# Altium schematic symbol library KNX-MCU-CONTROL_V0.2.SchLib: 24 symbols
Pins are listed as number, name and electrical type; pins without a type are passive.

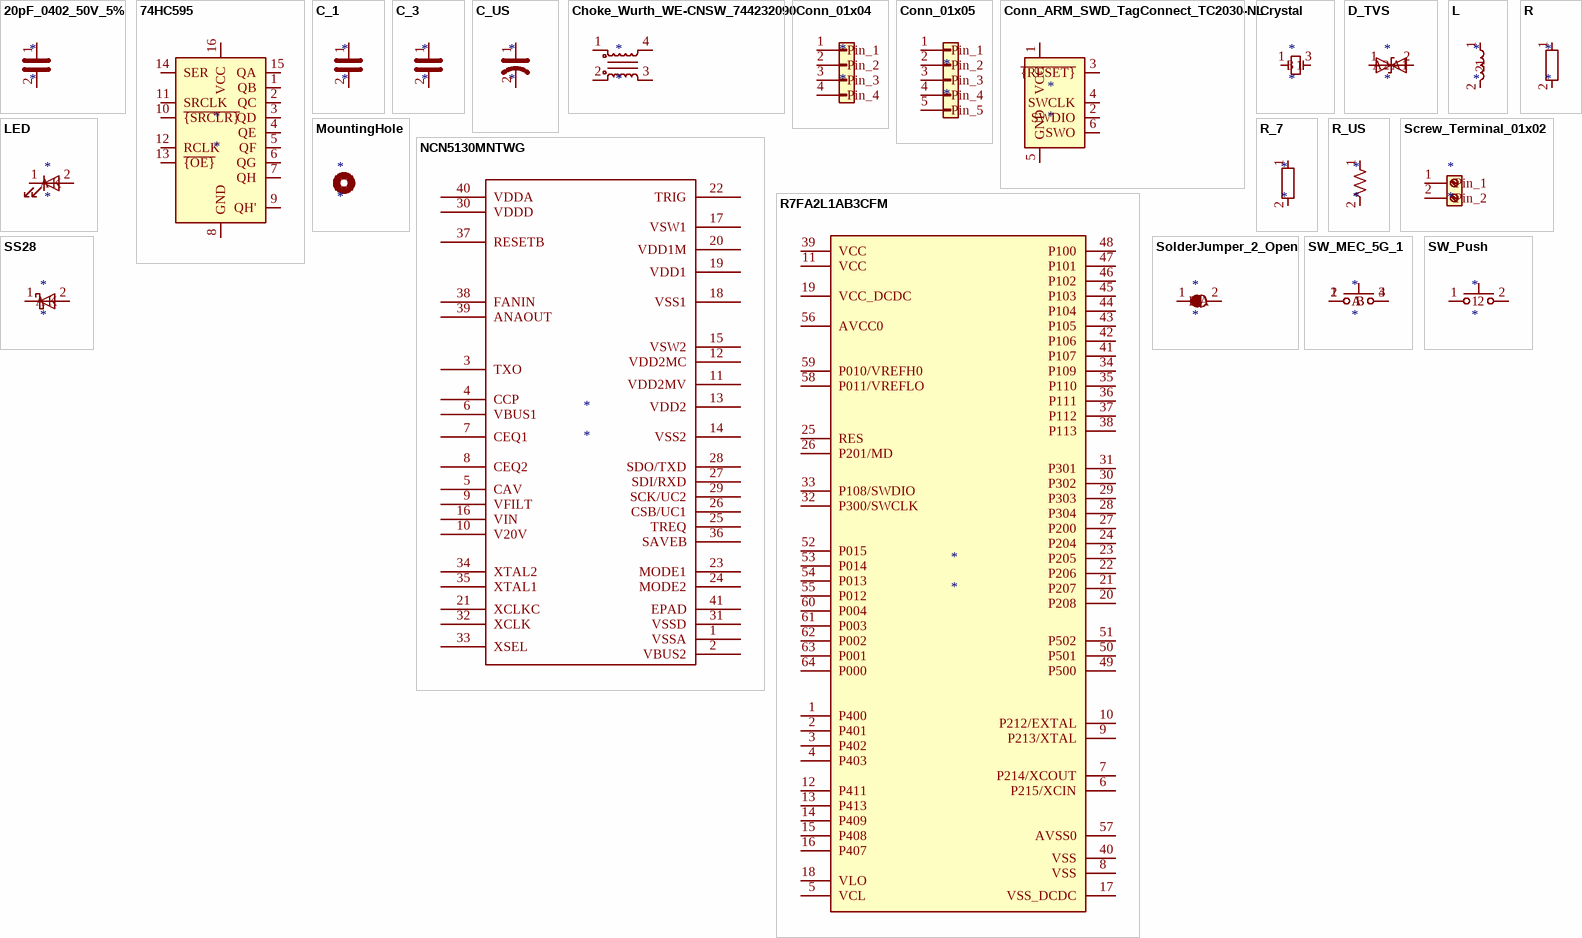
[diagram p0: symbols 20pF_0402_50V_5% to SW_Push]

## 20pF_0402_50V_5%
designator *
pins: 1, 2

## 74HC595
designator *
pins: 1 QB, 2 QC, 3 QD, 4 QE, 5 QF, 6 QG, 7 QH, 8 GND, 9 QH', 10 ~{{SRCLR}}, 11 SRCLK, 12 RCLK, 13 ~{{OE}}, 14 SER, 15 QA, 16 VCC

## C_1
designator *
pins: 1, 2

## C_3
designator *
pins: 1, 2

## C_US
designator *
pins: 1, 2

## Choke_Wurth_WE-CNSW_744232090
designator *
pins: 1, 2, 3, 4

## Conn_01x04
designator *
pins: 1 Pin_1, 2 Pin_2, 3 Pin_3, 4 Pin_4

## Conn_01x05
designator *
pins: 1 Pin_1, 2 Pin_2, 3 Pin_3, 4 Pin_4, 5 Pin_5

## Conn_ARM_SWD_TagConnect_TC2030-NL
designator *
pins: 1 VCC, 2 SWDIO, 3 ~{{RESET}}, 4 SWCLK, 5 GND, 6 SWO

## Crystal
designator *
pins: 1, 3

## D_TVS
designator *
pins: 1 A1, 2 A2

## L
designator *
pins: 1, 2

## LED
designator *
pins: 1 K, 2 A

## MountingHole
designator *

## NCN5130MNTWG
designator *
pins: 1 VSSA, 2 VBUS2, 3 TXO, 4 CCP, 5 CAV, 6 VBUS1, 7 CEQ1, 8 CEQ2, 9 VFILT, 10 V20V, 11 VDD2MV, 12 VDD2MC, 13 VDD2, 14 VSS2, 15 VSW2, 16 VIN, 17 VSW1, 18 VSS1, 19 VDD1, 20 VDD1M, 21 XCLKC, 22 TRIG, 23 MODE1, 24 MODE2, 25 TREQ, 26 CSB/UC1, 27 SDI/RXD, 28 SDO/TXD, 29 SCK/UC2, 30 VDDD, 31 VSSD, 32 XCLK, 33 XSEL, 34 XTAL2, 35 XTAL1, 36 SAVEB, 37 RESETB, 38 FANIN, 39 ANAOUT, 40 VDDA, 41 EPAD

## R
designator *
pins: 1, 2

## R7FA2L1AB3CFM
designator *
pins: 1 P400, 2 P401, 3 P402, 4 P403, 5 VCL, 6 P215/XCIN, 7 P214/XCOUT, 8 VSS, 9 P213/XTAL, 10 P212/EXTAL, 11 VCC, 12 P411, 13 P413, 14 P409, 15 P408, 16 P407, 17 VSS_DCDC, 18 VLO, 19 VCC_DCDC, 20 P208, 21 P207, 22 P206, 23 P205, 24 P204, 25 RES, 26 P201/MD, 27 P200, 28 P304, 29 P303, 30 P302, 31 P301, 32 P300/SWCLK, 33 P108/SWDIO, 34 P109, 35 P110, 36 P111, 37 P112, 38 P113, 39 VCC, 40 VSS, 41 P107, 42 P106, 43 P105, 44 P104, 45 P103, 46 P102, 47 P101, 48 P100, 49 P500, 50 P501, 51 P502, 52 P015, 53 P014, 54 P013, 55 P012, 56 AVCC0, 57 AVSS0, 58 P011/VREFLO, 59 P010/VREFH0, 60 P004, 61 P003, 62 P002, 63 P001, 64 P000

## R_7
designator *
pins: 1, 2

## R_US
designator *
pins: 1, 2

## Screw_Terminal_01x02
designator *
pins: 1 Pin_1, 2 Pin_2

## SolderJumper_2_Open
designator *
pins: 1 A, 2 B

## SS28
designator *
pins: 1 K, 2 A

## SW_MEC_5G_1
designator *
pins: 1 A, 2 A, 3 B, 4 B

## SW_Push
designator *
pins: 1, 2